# Altium footprint library AXT526124.PcbLib: 1 footprints
Each footprint in its own frame and in the unit in brackets; x right, y up, seen from the top. Pads: shape width x height; smd on the part's side, far side on the other; paste and mask are expansions set on the pad; w line width, h text height; cw(c..) or ccw(c..) is an arc to the next point about the centre after c.
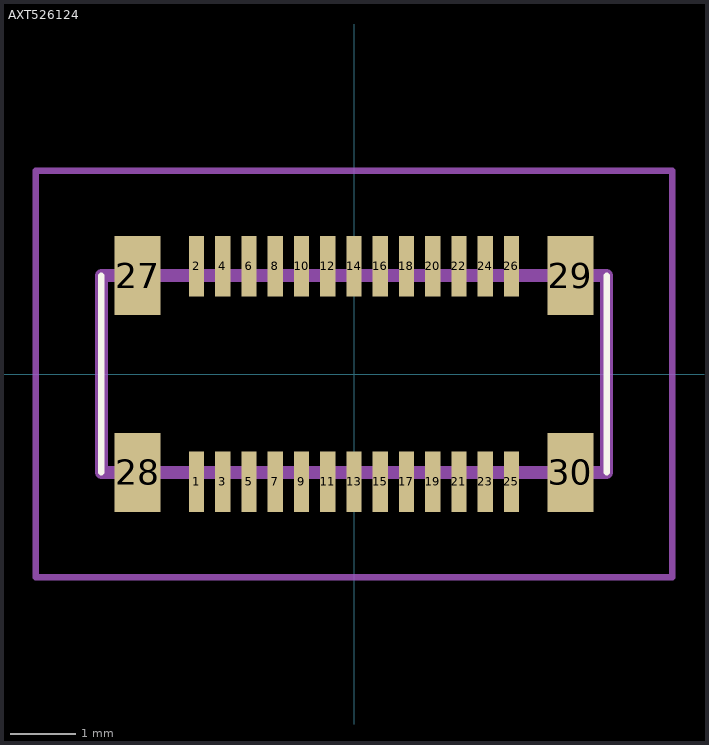
[diagram p0: the footprint, top view; thin cyan lines are the x and y axes]

## AXT526124 [mm]
pads (30):
  rect 0.23x0.92 smd: 1(-2.4,-1.64) 2(-2.4,1.64) 3(-2,-1.64) 4(-2,1.64) 5(-1.6,-1.64) 6(-1.6,1.64) 7(-1.2,-1.64) 8(-1.2,1.64) 9(-0.8,-1.64) 10(-0.8,1.64) 11(-0.4,-1.64) 12(-0.4,1.64) 13(0,-1.64) 14(0,1.64) 15(0.4,-1.64) 16(0.4,1.64) 17(0.8,-1.64) 18(0.8,1.64) 19(1.2,-1.64) 20(1.2,1.64) 21(1.6,-1.64) 22(1.6,1.64) 23(2,-1.64) 24(2,1.64) 25(2.4,-1.64) 26(2.4,1.64)
  rect 0.7x1.2 smd: 27(-3.3,1.5) 28(-3.3,-1.5) 29(3.3,1.5) 30(3.3,-1.5)
Top Overlay:
  lines w0.1: -3.85,-1.5 -3.85,1.5 ; 3.85,-1.5 3.85,1.5
Mechanical 15:
  lines w0.2: -3.85,-1.5 -3.85,1.5 3.85,1.5 3.85,-1.5 -3.85,-1.5
Mechanical 20:
  lines w0.1: -4.85,-3.1 -4.85,3.1 4.85,3.1 4.85,-3.1 -4.85,-3.1
3D body "AXT526124.stp": height 0.97, standoff 0, extent -3.85,-1.8 3.85,1.8